# EAGLE library part AD8662ARZ (library (common)-parts-that-we-use)
Low Noise, Precision 16 V CMOS, Rail-to-Rail Operational Amplifiers
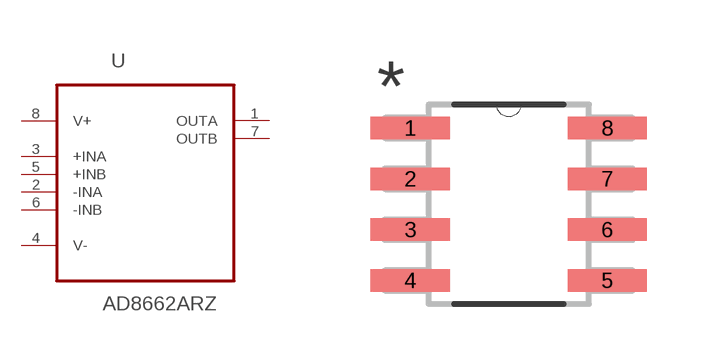
[diagram p5: symbol with the pads of SOIC127P600X175-8N; footprint SOIC127P600X175-8N]

Designator prefix U

## AD8662ARZ (MPN: AD8662ARZ; OC_FARNELL: 1274215; OC_NEWARK: 19M0994; PACKAGE: SOIC-8; SUPPLIER: ANALOG DEVICES)  [SOIC127P600X175-8N]
1  OUTA  out
2  -INA  in
3  +INA  in
4  V-  pwr
5  +INB  in
6  -INB  in
7  OUTB  out
8  V+  pwr

## Footprint SOIC127P600X175-8N (pad centres in mm)
smd 1.981 x 0.559: 1 -2.464,1.905; 2 -2.464,0.635; 3 -2.464,-0.635; 4 -2.464,-1.905; 5 2.464,-1.905; 6 2.464,-0.635; 7 2.464,0.635; 8 2.464,1.905